# Altium integrated library EEUEB1J100SH.IntLib: 1 symbol
Pins are listed as number, name and electrical type; pins without a type are passive.

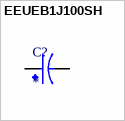
[diagram p0: symbol EEUEB1J100SH]

## EEUEB1J100SH
designator C?
10ÂµF 63V Aluminum Electrolytic Capacitors Radial, Can 5000 Hrs @ 105Â°C; MP: EEUEB1J100SH; MF: Panasonic; Price: None; Check_prices: https://www.snapeda.com/parts/EEUEB1J100SH/Panasonic/view-part/5796687/?ref=eda; Value: *; Package: RADIAL-2 Panasonic; SnapEDA_Link: https://www.snapeda.com/parts/EEUEB1J100SH/Panasonic/view-part/5796687/?ref=snap; Availability: In Stock
footprint CAPPRD250W50D500H1100
pins: N, P